# Altium schematic symbol library 9774080360R.SchLib: 1 symbol
Pins are listed as number, name and electrical type; pins without a type are passive.

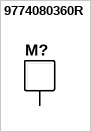
[diagram p0: symbol 9774080360R]

## 9774080360R
designator M?
ROUND STANDOFF M3X0.5 STEEL 8MM
pins: 1